# Altium schematic symbol library TPS2121RUXR.Schlib: 1 symbol
Pins are listed as number, name and electrical type; pins without a type are passive.

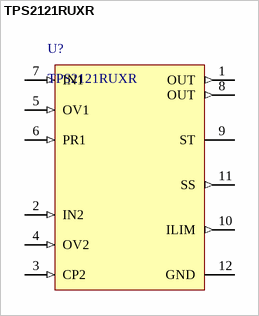
[diagram p0: symbol TPS2121RUXR]

## TPS2121RUXR
designator U?
OR Controller Source Selector Switch N-Channel 2:1 12-VQFN-HR (2x2.5)
pins: 1 OUT (out), 2 IN2 (in), 3 CP2 (in), 4 OV2 (in), 5 OV1 (in), 6 PR1 (in), 7 IN1 (in), 8 OUT (out), 9 ST (oc), 10 ILIM (out), 11 SS (out), 12 GND (power)